# EAGLE library part MCP45HV51 (library HomeMade)
Single High Voltage Resistor Network • Potentiometer configuration • 8-bit: 256 Resistors (257 Taps) • RAB Resistances 5kΩ
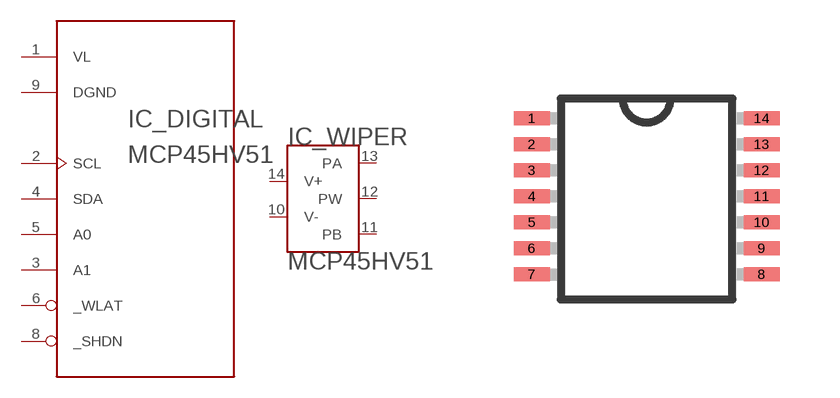
[diagram p11: symbol with the pads of TSSOP14; footprint TSSOP14]

Designator prefix IC; gates _DIGITAL=MCP45HV_DIGITAL _WIPER=MCP45HV_POT

## MCP45HV51  [TSSOP14]
1  _DIGITAL:VL  pwr
2  _DIGITAL:SCL  in
3  _DIGITAL:A1  in
4  _DIGITAL:SDA
5  _DIGITAL:A0  in
6  _DIGITAL:_WLAT  in
8  _DIGITAL:_SHDN  in
9  _DIGITAL:DGND  pwr
10  _WIPER:V-  pwr
11  _WIPER:PB  pas
12  _WIPER:PW  pas
13  _WIPER:PA  pas
14  _WIPER:V+  pwr

## Footprint TSSOP14 (pad centres in mm)
20-Lead Thin Shrink Small Outline Package [TSSOP]
smd 0.9 x 0.35: 1 -2.875,1.95; 2 -2.875,1.3; 3 -2.875,0.65; 4 -2.875,0; 5 -2.875,-0.65; 6 -2.875,-1.3; 7 -2.875,-1.95; 8 2.875,-1.95; 9 2.875,-1.3; 10 2.875,-0.65; 11 2.875,0; 12 2.875,0.65; 13 2.875,1.3; 14 2.875,1.95